# Altium footprint library DAC8552.PcbLib: 3 footprints
Each footprint in its own frame and in the unit in brackets; x right, y up, seen from the top. Pads: shape width x height; smd on the part's side, far side on the other; paste and mask are expansions set on the pad; w line width, h text height; cw(c..) or ccw(c..) is an arc to the next point about the centre after c.
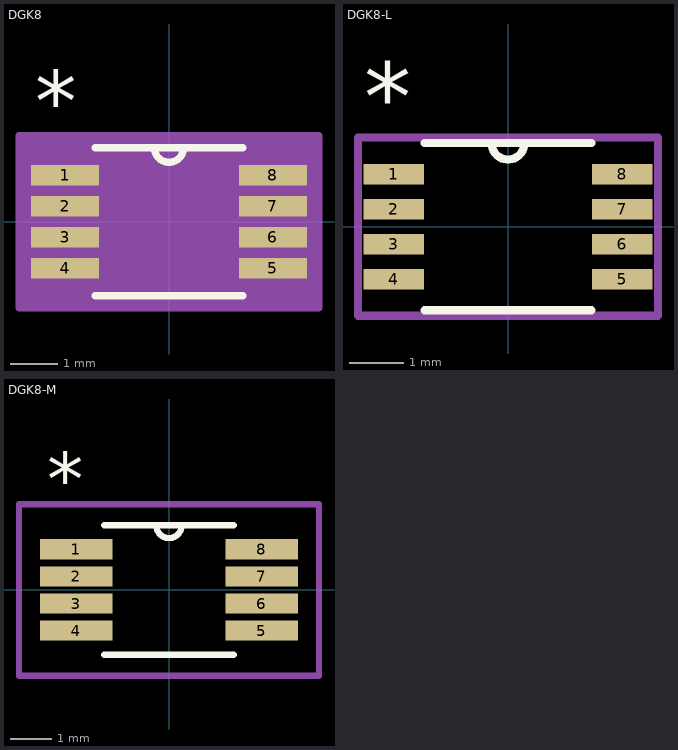
[diagram p0: the footprints below, top view; thin cyan lines are the x and y axes]

## DGK8 [mil]
pads (8):
  rect 56x17 smd: 1(-85.5,38.39) 2(-85.5,12.8) 3(-85.5,-12.8) 4(-85.5,-38.39) 5(85.5,-38.39) 6(85.5,-12.8) 7(85.5,12.8) 8(85.5,38.39)
Top Overlay:
  lines w6: -61,-61 61,-61 ; -61,61 61,61 ; -12,61 ccw(c0,61) 12,61
  text "*" at -110,75 h50
Mechanical 13:
  lines w0: -12,61 ccw(c0,61) 12,61
  text "*" at -110,75 h50
Mechanical 15:
  region: 123.5,-71 -123.5,-71 -123.5,71 123.5,71
  lines w6: -123.5,-71 123.5,-71 123.5,71 -123.5,71 -123.5,-71
3D body "DGK8.stp": height 43.1, standoff 0, extent -99.5,-61 99.5,61

## DGK8-L [mil]
pads (8):
  rect 44x15 smd: 1(-83.5,38.39) 2(-83.5,12.8) 3(-83.5,-12.8) 4(-83.5,-38.39) 5(83.5,-38.39) 6(83.5,-12.8) 7(83.5,12.8) 8(83.5,38.39)
Top Overlay:
  lines w6: -61,-61 61,-61 ; -61,61 61,61 ; -12,61 ccw(c0,61) 12,61
  text "*" at -105,70 h50
Mechanical 13:
  lines w0: -12,61 ccw(c0,61) 12,61
  text "*" at -105,70 h50
Mechanical 15:
  lines w6: -109.5,-65 109.5,-65 109.5,65 -109.5,65 -109.5,-65
3D body "DGK8-L.stp": height 43.1, standoff 0, extent -99.5,-61 99.5,61

## DGK8-M [mil]
pads (8):
  rect 68x19 smd: 1(-87.5,38.39) 2(-87.5,12.8) 3(-87.5,-12.8) 4(-87.5,-38.39) 5(87.5,-38.39) 6(87.5,-12.8) 7(87.5,12.8) 8(87.5,38.39)
Top Overlay:
  lines w6: -61,-61 61,-61 ; -61,61 61,61 ; -12,61 ccw(c0,61) 12,61
  text "*" at -115,80 h50
Mechanical 13:
  lines w0: -12,61 ccw(c0,61) 12,61
  text "*" at -115,80 h50
Mechanical 15:
  lines w6: -141.5,-81 141.5,-81 141.5,81 -141.5,81 -141.5,-81
3D body "DGK8-M.stp": height 43.1, standoff 0, extent -99.5,-61 99.5,61